# Altium schematic symbol library 2908-05WB-MG.SchLib: 1 symbol
Pins are listed as number, name and electrical type; pins without a type are passive.

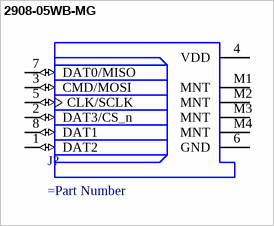
[diagram p0: symbol 2908-05WB-MG]

## 2908-05WB-MG
designator J?
=Description
pins: 1 DAT2 (io), 2 DAT3/CS_n (io), 3 CMD/MOSI (io), 4 VDD (power), 5 CLK/SCLK (io), 6 GND (power), 7 DAT0/MISO (io), 8 DAT1 (io), M1 MNT, M2 MNT, M3 MNT, M4 MNT